# Altium footprint library 1005Metric-Capacitor.PcbLib: 1 footprints
Each footprint in its own frame and in the unit in brackets; x right, y up, seen from the top. Pads: shape width x height; smd on the part's side, far side on the other; paste and mask are expansions set on the pad; w line width, h text height; cw(c..) or ccw(c..) is an arc to the next point about the centre after c.
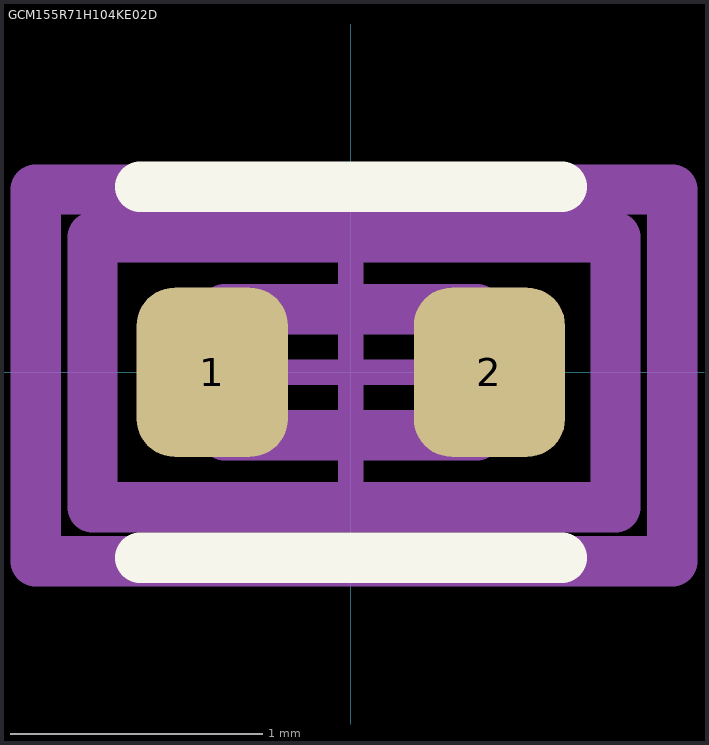
[diagram p0: the footprint, top view; thin cyan lines are the x and y axes]

## GCM155R71H104KE02D [mm]
pads (2):
  rrect50% 0.6x0.672 smd: 1(-0.55,0) 2(0.55,0)
Top Overlay:
  lines w0.2: -0.836,-0.736 0.836,-0.736 ; -0.836,0.736 0.836,0.736
Top Assembly:
  lines w0.2: -1.025,-0.536 -1.025,0.536 1.05,0.536 1.05,-0.536 -1.025,-0.536
  text ".Designator" at 0.183,-4.35 h0.8
Top 3D Body:
  lines w0.2: -0.5,-0.25 0.5,-0.25 0.5,0.25 -0.5,0.25 -0.5,-0.25
Top Courtyard:
  lines w0.1: -0.5,0 0.5,0 ; 0,-0.5 0,0.5
  lines w0.2: -1.25,-0.75 1.275,-0.75 1.275,0.725 -1.25,0.725 -1.25,-0.75
3D body "Cap_Murata_GCM155R71H271KA37D_eec.STEP": height 0.25, standoff 0, extent -1.036,-0.536 1.036,0.536